# Altium schematic symbol library temperature-controller-lib.SchLib: 5 symbols
Pins are listed as number, name and electrical type; pins without a type are passive.

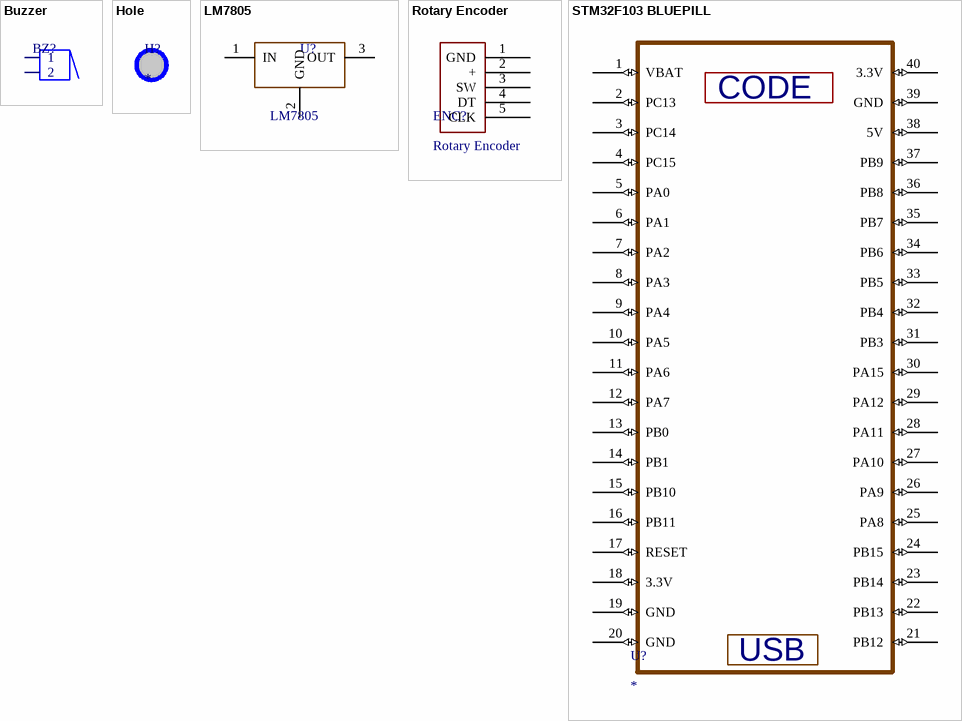
[diagram p0: symbols Buzzer to STM32F103 BLUEPILL]

## Buzzer
designator BZ?  (value not drawn)
footprint BUZZER (Buzzer)
pins: 1, 2

## Hole
designator H?
Hole 3mm
footprint HOLE-3mm
pins: 1 hidden

## LM7805
designator U?
Positive Voltage Regulator
footprint QTO-220 (TO-220 - 1-2-3)
pins: 1 IN (power), 2 GND (power), 3 OUT (power)

## Rotary Encoder
designator ENC?
footprint Rotary-Encoder (JP5)
pins: 1 GND, 2 + "VCC 3-5V", 3 SW "Button", 4 DT "Phase B", 5 CLK "Phase A"

## STM32F103 BLUEPILL
designator U?
footprint STM32F103 Bluepill
pins: 1 VBAT (io), 2 PC13 (io), 3 PC14 (io), 4 PC15 (io), 5 PA0 (io), 6 PA1 (io), 7 PA2 (io), 8 PA3 (io), 9 PA4 (io), 10 PA5 (io), 11 PA6 (io), 12 PA7 (io), 13 PB0 (io), 14 PB1 (io), 15 PB10 (io), 16 PB11 (io), 17 RESET (io), 18 3.3V (io), 19 GND (io), 20 GND (io), 21 PB12 (io), 22 PB13 (io), 23 PB14 (io), 24 PB15 (io), 25 PA8 (io), 26 PA9 (io), 27 PA10 (io), 28 PA11 (io), 29 PA12 (io), 30 PA15 (io), 31 PB3 (io), 32 PB4 (io), 33 PB5 (io), 34 PB6 (io), 35 PB7 (io), 36 PB8 (io), 37 PB9 (io), 38 5V (io), 39 GND (io), 40 3.3V (io)
text: CODE; USB